# Altium schematic symbol library Components.SchLib: 65 symbols (part 1 of 2)
Pins are listed as number, name and electrical type; pins without a type are passive.

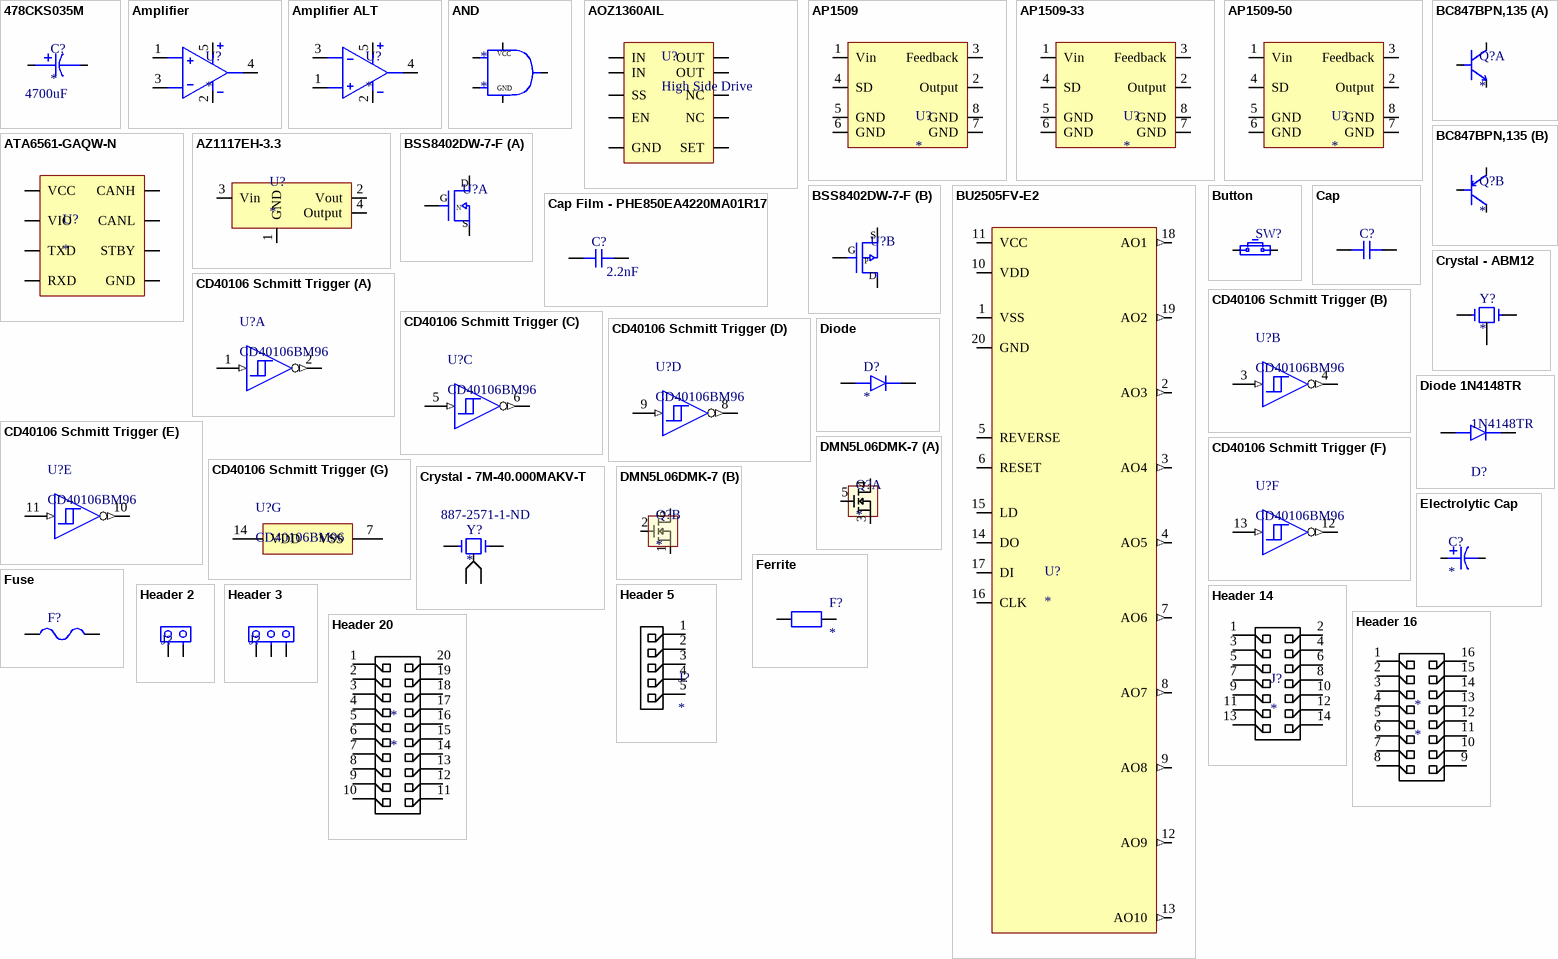
[diagram p0: symbols 478CKS035M to Header 20]

## 478CKS035M
designator C?  value 4700uF
Aluminum Electrolytic Capacitors - Leaded 4700uF 35 Volts 20% LYTICS/IC; Manufacturer: Cornell Dubilier; Manufacturer Part Number: 478CKS035M; Supplier: Newark; Supplier Part Number: 84M5175; RoHS: Yes; Category: Capacitors; Stock: 101; Pricing: 1=1.58, 10=1.45, 25=1.45, 50=1.45, 100=1.34, 500=1.34 (USD); ComponentLink1URL: https://datasheet.ciiva.com/16317/ckr-cks-16317831.pdf?src-supplier=Future+Electronics; ComponentLink1Description: https://datasheet.ciiva.com/16317/ckr-cks-16317831.pdf?src-supplier=Future+Electronics
footprint Radial Capacitor 7.5mm Pitch
pins: 1, 2

## Amplifier
designator U?
footprint SOT 65 - 5
pins: 1 In+, 2 Vcc-, 3 In-, 4 Out, 5 Vcc+

## Amplifier ALT
designator U?
footprint SOT 65 - 5
pins: 1 In+, 2 Vcc-, 3 In-, 4 Out, 5 Vcc+

## AND
designator *
pins: 1 VCC, 2, 3, 4, 5
text: GND

## AOZ1360AIL
designator U?, comment High Side Drive
IC LOAD SW HI-SIDE CC 8SOIC; Manufacturer: Alpha Wire; Manufacturer Part Number: AOZ1361DI-02; Supplier 1: Digi-Key; RoHS: No; Stock 1: 5701; Pricing 1: 1=1.74000, 10=1.56700, 25=1.47800, 100=1.18240, 250=1.03464, 500=1.00508, 1000=0.79815 (USD); Supplier Part Number 1: 785-1861-1-ND
pins: 1 IN, 2 IN, 3 NC, 4 GND, 5 SS, 6 EN, 7 SET, 8 NC, 9 OUT, 10 OUT

## AP1509
designator U?
DIODES INC.         AP1509-SG-13             DC-DC Switching Buck (Step Down) Regulator, Adjustable, 4.5V-22Vin, 1.23V-18Vout, 2Aout, SOIC-8; Number of Outputs: 1; Output Voltage: 18V; Max Input Voltage: 22V; Min Input Voltage: 4.5V; Max Output Current: 2A; Switching Frequency: 173kHz; Efficiency: 76%; Operating Supply Current: 5mA; Min Output Voltage: 1.23V; Synchronous Rectifier: No; Output Configuration: Positive; Supplier 1: Digi-Key; Manufacturer: Diodes; Manufacturer Part Number: AP1509-SG-13; RoHS: Yes; Category: Power Supply Modules; Stock 1: 2148; Pricing 1: 1=1.65000, 10=1.47300, 25=1.39760, 100=1.07330, 250=0.94848, 500=0.89856, 1000=0.69888 (USD); Mount: Surface Mount; Case/Package: SOP; Number of Pins: 8; Weight: 0.030018oz; Contact Plating: Tin,Matte; Min Operating Temperature: -20°C; Max Operating Temperature: 85°C; Operating Supply Voltage: 22V; Output Current: 2A; Packaging: Tape and Reel; Package Quantity: 2500; Min Supply Voltage: 4.5V; Max Output Voltage: 18V; Output Type: Adjustable; Length: 4.95mm; Height: 1.5mm; Width: 3.95mm; REACH SVHC: No SVHC; Lead Free: Lead Free; ComponentLink1URL: https://datasheet.ciiva.com/1165/608784-1165856.pdf?src-supplier=Farnell; ComponentLink1Description: https://datasheet.ciiva.com/1165/608784-1165856.pdf?src-supplier=Farnell; ComponentLink2URL: https://datasheet.ciiva.com/17293/ap1509-17293941.pdf?src-supplier=Avnet+Europe; ComponentLink2Description: https://datasheet.ciiva.com/17293/ap1509-17293941.pdf?src-supplier=Avnet+Europe; ComponentLink3URL: https://datasheet.ciiva.com/1161/608784-1161661.pdf?src-supplier=Element14; ComponentLink3Description: https://datasheet.ciiva.com/1161/608784-1161661.pdf?src-supplier=Element14; Supplier Part Number 1: AP1509-SGDICT-ND
footprint SOIC - 8 (SOIC, 8-Leads, Body 4.90x3.90mm, Pitch 1.27mm, IPC Medium Density)
pins: 1 Vin, 2 Output, 3 Feedback, 4 SD, 5 GND, 6 GND, 7 GND, 8 GND

## AP1509-33
designator U?
Voltage Regulators - Switching SW REG CNV BUCK ASYN 150K 1.4 22V 3.3V; Manufacturer: Diodes; Manufacturer Part Number: AP1509-33SG-13; Number of Outputs: 1; Min Input Voltage: 4.5V; Max Output Current: 2A; Switching Frequency: 173kHz; Efficiency: 78%; Synchronous Rectifier: No; Operating Supply Current: 5mA; Output Type: Fixed; Output Configuration: Positive; Supplier 1: Digi-Key; RoHS: Yes; Category: Voltage Regulators - Switching; Stock 1: 5475; Pricing 1: 1=1.65000, 10=1.47300, 100=1.07330, 500=0.89856, 1000=0.69888 (USD); Mount: Surface Mount; Case/Package: SOP; Number of Pins: 8; Weight: 0.030018oz; Min Operating Temperature: -20°C; Max Operating Temperature: 85°C; Output Voltage: 3.3V; Max Input Voltage: 22V; Operating Supply Voltage: 22V; Package Quantity: 1; Packaging: Tape and Reel; Output Current: 2A; Min Supply Voltage: 4.5V; Nominal Output Voltage: 3.3V; Min Output Voltage: 3.3V; Max Output Voltage: 3.3V; Length: 4.95mm; Height: 1.5mm; Width: 3.95mm; Radiation Hardening: No; REACH SVHC: No SVHC; Lead Free: Lead Free; ComponentLink1URL: https://datasheet.ciiva.com/2024/ap1509-2024112.pdf?src-supplier=Digi-Key; ComponentLink1Description: https://datasheet.ciiva.com/2024/ap1509-2024112.pdf?src-supplier=Digi-Key; ComponentLink2URL: https://datasheet.ciiva.com/26898/ap1509-33sg-13-26898468.pdf?src-supplier=IIIC; ComponentLink2Description: https://datasheet.ciiva.com/26898/ap1509-33sg-13-26898468.pdf?src-supplier=IIIC; ComponentLink3URL: https://datasheet.ciiva.com/17294/ap1509-17294153.pdf?src-supplier=Avnet+Europe; ComponentLink3Description: https://datasheet.ciiva.com/17294/ap1509-17294153.pdf?src-supplier=Avnet+Europe; ComponentLink4URL: https://datasheet.ciiva.com/1161/608784-1161659.pdf?src-supplier=Element14; ComponentLink4Description: https://datasheet.ciiva.com/1161/608784-1161659.pdf?src-supplier=Element14; ComponentLink5URL: https://datasheet.ciiva.com/3220/ap1509-3220415.pdf?src-supplier=Avnet; ComponentLink5Description: https://datasheet.ciiva.com/3220/ap1509-3220415.pdf?src-supplier=Avnet; ComponentLink6URL: https://datasheet.ciiva.com/3222/ap1509-3222047.pdf?src-supplier=Avnet; ComponentLink6Description: https://datasheet.ciiva.com/3222/ap1509-3222047.pdf?src-supplier=Avnet; ComponentLink7URL: https://datasheet.ciiva.com/22696/608784-22696879.pdf?src-supplier=Element14; ComponentLink7Description: https://datasheet.ciiva.com/22696/608784-22696879.pdf?src-supplier=Element14; Supplier Part Number 1: AP1509-33SGDICT-ND
footprint SOIC - 8 (SOIC, 8-Leads, Body 4.90x3.90mm, Pitch 1.27mm, IPC Medium Density)
pins: 1 Vin, 2 Output, 3 Feedback, 4 SD, 5 GND, 6 GND, 7 GND, 8 GND

## AP1509-50
designator U?
DIODES INC.         AP1509-50SG-13             Buck (Step Down) Switching Regulator, Fixed, 4.5V-22V In, 5V And 2A Out, SOIC-8; Number of Outputs: 1; Min Input Voltage: 4.5V; Max Input Voltage: 22V; Switching Frequency: 173kHz; Efficiency: 83%; Synchronous Rectifier: No; Operating Supply Current: 5mA; Output Configuration: Positive; Supplier 1: Digi-Key; Manufacturer: Diodes; Manufacturer Part Number: AP1509-50SG-13; RoHS: Yes; Category: Power Supply Modules; Stock 1: 9190; Pricing 1: 1=1.36000, 10=1.21500, 100=0.88550, 500=0.74132, 1000=0.57658 (USD); Mount: Surface Mount; Case/Package: SOP; Number of Pins: 8; Weight: 0.030018oz; Contact Plating: Tin,Matte; Min Operating Temperature: -20°C; Max Operating Temperature: 85°C; Output Voltage: 5V; Max Output Current: 2A; Operating Supply Voltage: 22V; Packaging: Tape and Reel; Package Quantity: 2500; Output Current: 2A; Min Supply Voltage: 4.5V; Nominal Output Voltage: 5V; Min Output Voltage: 5V; Max Output Voltage: 5V; Output Type: Fixed; Length: 4.95mm; Height: 1.5mm; Width: 3.95mm; REACH SVHC: No SVHC; Lead Free: Lead Free; ComponentLink1URL: https://datasheet.ciiva.com/1161/608784-1161660.pdf?src-supplier=Element14; ComponentLink1Description: https://datasheet.ciiva.com/1161/608784-1161660.pdf?src-supplier=Element14; Supplier Part Number 1: AP1509-50SGDICT-ND
footprint SOIC - 8 (SOIC, 8-Leads, Body 4.90x3.90mm, Pitch 1.27mm, IPC Medium Density)
pins: 1 Vin, 2 Output, 3 Feedback, 4 SD, 5 GND, 6 GND, 7 GND, 8 GND

## ATA6561-GAQW-N
designator U?
MICROCHIP - ATA6561-GAQW-N - CAN Bus, CAN, 4.5 V, 5.5 V, SOIC; Receiver Hysteresis: 120mV; Data Rate: 5Mbps; Supplier 1: Digi-Key; Manufacturer: Microchip; Manufacturer Part Number: ATA6561-GAQW-N; RoHS: No; Stock 1: 2875; Pricing 1: 1=0.53000, 25=0.44000, 100=0.43780 (USD); Mount: Surface Mount; Case/Package: SOIC; Number of Pins: 8; Min Operating Temperature: -40°C; Max Operating Temperature: 150°C; Packaging: Tape and Reel; ComponentLink1URL: http://ww1.microchip.com/downloads/en/DeviceDoc/ATA6560-ATA6561-High-Speed-CAN-Transceiver-DS20005991A.pdf?src-supplier=Newark; ComponentLink1Description: http://ww1.microchip.com/downloads/en/DeviceDoc/ATA6560-ATA6561-High-Speed-CAN-Transceiver-DS20005991A.pdf?src-supplier=Newark; ComponentLink2URL: http://www.farnell.com/datasheets/2643176.pdf?src-supplier=Newark; ComponentLink2Description: http://www.farnell.com/datasheets/2643176.pdf?src-supplier=Newark; ComponentLink3URL: http://ww1.microchip.com/downloads/en/DeviceDoc/ATA6560-ATA6561-High-Speed-CAN-Transceiver-DS20005991A.pdf?src-supplier=Farnell; ComponentLink3Description: http://ww1.microchip.com/downloads/en/DeviceDoc/ATA6560-ATA6561-High-Speed-CAN-Transceiver-DS20005991A.pdf?src-supplier=Farnell; ComponentLink4URL: http://www.microchip.com/mymicrochip/filehandler.aspx?ddocname=en589821&src-supplier=Digi-Key; ComponentLink4Description: http://www.microchip.com/mymicrochip/filehandler.aspx?ddocname=en589821&src-supplier=Digi-Key; ComponentLink5URL: http://www.farnell.com/datasheets/2643176.pdf?src-supplier=Element14; ComponentLink5Description: http://www.farnell.com/datasheets/2643176.pdf?src-supplier=Element14; Supplier Part Number 1: ATA6561-GAQW-NCT-ND
footprint SOIC - 8 (SOIC, 8-Leads, Body 4.90x3.90mm, Pitch 1.27mm, IPC Medium Density)
pins: 1 TXD, 2 GND, 3 VCC, 4 RXD, 5 VIO, 6 CANL, 7 CANH, 8 STBY

## AZ1117EH-3.3
designator U?
IC REG LINEAR 3.3V 1A SOT223; Manufacturer: Diodes; Manufacturer Part Number: AZ1117EH-3.3TRG1; Dropout Voltage: 1.1V; Number of Regulators: 1; Max Input Voltage: 13V; Operating Supply Current: 3.5mA; Power Supply Rejection Ratio (PSRR): 70dB; Polarity: Positive; Accuracy: 1%; Reference Voltage: 1.262V; Output Type: Fixed; Supplier 1: Digi-Key; RoHS: Yes; Category: Voltage Regulators - Linear; Stock 1: 63739; Pricing 1: 1=0.43000, 10=0.32400, 25=0.28320, 100=0.16180, 250=0.15172, 500=0.12138, 1000=0.09306 (USD); Mount: Surface Mount; Case/Package: TO-261-4; Number of Pins: 3; Weight: 0.000282oz; Contact Plating: Tin; Min Operating Temperature: -40°C; Max Operating Temperature: 125°C; Packaging: Tape and Reel; Output Voltage: 3.3V; Output Current: 1A; Number of Outputs: 1; Package Quantity: 4000; Quiescent Current: 3.5mA; Max Output Current: 1A; Lead Free: Lead Free; ComponentLink1URL: http://www.mouser.com/ds/2/115/Diodes_AZ1117E-516247.pdf?src-supplier=Mouser; ComponentLink1Description: http://www.mouser.com/ds/2/115/Diodes_AZ1117E-516247.pdf?src-supplier=Mouser; ComponentLink2URL: https://www.diodes.com/assets/Datasheets/AZ1117E.pdf?src-supplier=Digi-Key; ComponentLink2Description: https://www.diodes.com/assets/Datasheets/AZ1117E.pdf?src-supplier=Digi-Key; ComponentLink3URL: http://diodes.com/datasheets/AZ1117E.pdf?src-supplier=Avnet; ComponentLink3Description: http://diodes.com/datasheets/AZ1117E.pdf?src-supplier=Avnet; Supplier Part Number 1: AZ1117EH-3.3TRG1DICT-ND
footprint SOT223 (SOT223, 4-Leads, Body 6.50x7.00mm (avg), Pitch 2.30mm, IPC Medium Density)
pins: 1 GND, 2 Vout, 3 Vin, 4 Output

## BC847BPN,135
designator Q?
TRANS NPN/PNP 45V 0.1A 6TSSOP; Manufacturer: Nexperia; Manufacturer Part Number: BC847BPN,135; Supplier 1: Digi-Key; RoHS: No; Stock 1: 45801; Pricing 1: 1=0.32000, 10=0.26000, 100=0.10650, 500=0.08886, 1000=0.06174 (USD); ComponentLink1URL: https://assets.nexperia.com/documents/data-sheet/BC847BPN.pdf?src-supplier=Digi-Key; ComponentLink1Description: https://assets.nexperia.com/documents/data-sheet/BC847BPN.pdf?src-supplier=Digi-Key; Supplier Part Number 1: 1727-1877-1-ND
footprint SOT363 - 6
part A pins: 2, 2, 6
part B pins: 3, 4, 5

## BSS8402DW-7-F
designator U?  (value not drawn)
MOSFET N/P-CH 60V/50V SC70-6; Manufacturer: Diodes; Manufacturer Part Number: BSS8402DW-7-F; Gate to Source Voltage (Vgs): 20V; Nominal Vgs: 2.5V; Rds On Max: 7.5R; Input Capacitance: 50pF; Max Power Dissipation: 200mW; Number of Elements: 2; Dual Supply Voltage: 60V; Continuous Drain Current (ID): 115mA; Drain to Source Resistance: 4.4R; Turn-Off Delay Time: 18ns; Drain to Source Voltage (Vdss): -50V; Element Configuration: Dual; Turn-On Delay Time: 10ns; On-State Resistance: 10R; FET Type: N and P-Channel; Supplier 1: Digi-Key; RoHS: Yes; Category: MOSFETs; Stock 1: 189659; Pricing 1: 1=0.49000, 10=0.40100, 100=0.23030, 500=0.21320, 1000=0.14498 (USD); Mount: Surface Mount; Case/Package: SOT-363; Number of Pins: 6; Weight: 0.000212oz; Contact Plating: Tin,Matte; Min Operating Temperature: -55°C; Max Operating Temperature: 150°C; Package Quantity: 3000; Packaging: Tape and Reel; Power Dissipation: 200mW; Threshold Voltage: 2.5V; Termination: SMD/SMT; Number of Channels: 2; Current Rating: 115mA; Length: 2.2mm; Height: 1mm; Width: 1.35mm; REACH SVHC: No SVHC; Lead Free: Lead Free; ComponentLink1URL: https://datasheet.ciiva.com/1252/ds30380-1252496.pdf?src-supplier=Newark; ComponentLink1Description: https://datasheet.ciiva.com/1252/ds30380-1252496.pdf?src-supplier=Newark; ComponentLink2URL: https://datasheet.ciiva.com/4442/ds30380-80943-4442992.pdf?src-supplier=Mouser; ComponentLink2Description: https://datasheet.ciiva.com/4442/ds30380-80943-4442992.pdf?src-supplier=Mouser; ComponentLink3URL: https://datasheet.ciiva.com/34302/1539454-34302372.pdf?src-supplier=Jameco; ComponentLink3Description: https://datasheet.ciiva.com/34302/1539454-34302372.pdf?src-supplier=Jameco; ComponentLink4URL: https://datasheet.ciiva.com/26789/bss8402dw-7-f-26789052.pdf?src-supplier=IIIC; ComponentLink4Description: https://datasheet.ciiva.com/26789/bss8402dw-7-f-26789052.pdf?src-supplier=IIIC; ComponentLink5URL: https://datasheet.ciiva.com/17323/ds30380-17323221.pdf?src-supplier=Avnet+Europe; ComponentLink5Description: https://datasheet.ciiva.com/17323/ds30380-17323221.pdf?src-supplier=Avnet+Europe; ComponentLink6URL: https://datasheet.ciiva.com/928/ds30380-928744.pdf?src-supplier=Digi-Key; ComponentLink6Description: https://datasheet.ciiva.com/928/ds30380-928744.pdf?src-supplier=Digi-Key; ComponentLink7URL: https://datasheet.ciiva.com/928/ds30380-928742.pdf?src-supplier=Digi-Key; ComponentLink7Description: https://datasheet.ciiva.com/928/ds30380-928742.pdf?src-supplier=Digi-Key; ComponentLink8URL: https://datasheet.ciiva.com/928/ds30380-928743.pdf?src-supplier=Digi-Key; ComponentLink8Description: https://datasheet.ciiva.com/928/ds30380-928743.pdf?src-supplier=Digi-Key; ComponentLink9URL: https://datasheet.ciiva.com/16419/ds30380-16419384.pdf?src-supplier=Future+Electronics; ComponentLink9Description: https://datasheet.ciiva.com/16419/ds30380-16419384.pdf?src-supplier=Future+Electronics; ComponentLink10URL: https://datasheet.ciiva.com/1190/ds30380-1190250.pdf?src-supplier=Element14; ComponentLink10Description: https://datasheet.ciiva.com/1190/ds30380-1190250.pdf?src-supplier=Element14; Supplier Part Number 1: BSS8402DW-FDICT-ND
footprint SOT363 - 6
part A pins: 1 Source, 2 Gate, 6 Drain
part B pins: 3 Source, 4 Drain, 5 Gate
part A text: D; G; N; S
part B text: S; G; P; D

## BU2505FV-E2
designator U?
YAGEO         RC0603FR-07100RL            RES, THICK FILM, 100R, 1%, 0.1W, 0603, REEL; Manufacturer: Rohm; Manufacturer Part Number: BU2505FV-E2; Resolution: 10b; Settling Time: 20us; Integral Nonlinearity (INL): 3.5LSB; Output Type: Voltage; Max Supply Voltage: 5.5V; Min Supply Voltage: 4.5V; Number of Channels: 10; Power Consumption: 400mW; Interface: Serial; Supply Type: Single; Temperature Coefficient: 100ppm/°C; Voltage Rating (DC): 50V; Power Rating: 100mW; Supplier 1: Digi-Key; RoHS: Yes; Category: Digital to Analog Converters (DACs); Stock 1: 10757; Pricing 1: 1=5.80000, 10=5.21200, 25=4.92760, 100=4.27050, 250=4.05152, 500=3.63540, 1000=3.06600 (USD); Mount: Surface Mount; Case/Package: LSSOP; Number of Pins: 20; Contact Plating: Copper,Tin; Min Operating Temperature: -30°C; Max Operating Temperature: 85°C; Packaging: Tape and Reel; Number of DAC Channels: 10; Package Quantity: 2500; Number of Converters: 10; Number of Bits: 10; Radiation Hardening: No; Lead Free: Lead Free; ComponentLink1URL: https://datasheet.ciiva.com/4780/bu2505fv-e-210273-4780625.pdf?src-supplier=Mouser; ComponentLink1Description: https://datasheet.ciiva.com/4780/bu2505fv-e-210273-4780625.pdf?src-supplier=Mouser; ComponentLink2URL: https://datasheet.ciiva.com/6659/bu2506fv-e-6659299.pdf?src-supplier=Digi-Key; ComponentLink2Description: https://datasheet.ciiva.com/6659/bu2506fv-e-6659299.pdf?src-supplier=Digi-Key; ComponentLink3URL: https://datasheet.ciiva.com/26920/getdatasheetpartid-436240-26920243.pdf?src-supplier=Verical; ComponentLink3Description: https://datasheet.ciiva.com/26920/getdatasheetpartid-436240-26920243.pdf?src-supplier=Verical; ComponentLink4URL: https://datasheet.ciiva.com/6659/bu2506fv-e-6659302.pdf?src-supplier=Digi-Key; ComponentLink4Description: https://datasheet.ciiva.com/6659/bu2506fv-e-6659302.pdf?src-supplier=Digi-Key; ComponentLink5URL: https://datasheet.ciiva.com/6659/bu2506fv-e-6659303.pdf?src-supplier=Digi-Key; ComponentLink5Description: https://datasheet.ciiva.com/6659/bu2506fv-e-6659303.pdf?src-supplier=Digi-Key; ComponentLink6URL: https://datasheet.ciiva.com/16335/bu2506fv-e-16335895.pdf?src-supplier=Future+Electronics; ComponentLink6Description: https://datasheet.ciiva.com/16335/bu2506fv-e-16335895.pdf?src-supplier=Future+Electronics; ComponentLink7URL: https://datasheet.ciiva.com/8189/bu2506fv-e-8189592.pdf?src-supplier=Avnet; ComponentLink7Description: https://datasheet.ciiva.com/8189/bu2506fv-e-8189592.pdf?src-supplier=Avnet; Supplier Part Number 1: BU2505FV-E2CT-ND; Supplier 2: Digi-Key; Stock 2: 15523210; Pricing 2: 1=0.10000, 10=0.02300, 100=0.00940, 1000=0.00421, 2500=0.00366 (USD); Case Code (Imperial): 0603; Case Code (Metric): 1608; Resistance: 100R; Tolerance: 1%; Composition: Thick Film; Voltage Rating: 50V; Termination: SMD/SMT; Military Standard: Not; Length: 1.6mm; Height: 0.45mm; Width: 0.8mm; Depth: 0.8mm; REACH SVHC: Unknown; ComponentLink8URL: https://datasheet.ciiva.com/7660/38590-7660788.pdf?src-supplier=Element14; ComponentLink8Description: https://datasheet.ciiva.com/7660/38590-7660788.pdf?src-supplier=Element14; ComponentLink9URL: https://datasheet.ciiva.com/11808/0900766b80f96399-11808280.pdf?src-supplier=RSComponents; ComponentLink9Description: https://datasheet.ciiva.com/11808/0900766b80f96399-11808280.pdf?src-supplier=RSComponents; ComponentLink10URL: https://datasheet.ciiva.com/46440/1868787-46440890.pdf?src-supplier=Element14; ComponentLink10Description: https://datasheet.ciiva.com/46440/1868787-46440890.pdf?src-supplier=Element14; ComponentLink11URL: https://datasheet.ciiva.com/7746/1738695-7746237.pdf?src-supplier=Element14; ComponentLink11Description: https://datasheet.ciiva.com/7746/1738695-7746237.pdf?src-supplier=Element14; ComponentLink12URL: https://datasheet.ciiva.com/7746/1738695-7746238.pdf?src-supplier=Element14; ComponentLink12Description: https://datasheet.ciiva.com/7746/1738695-7746238.pdf?src-supplier=Element14; ComponentLink13URL: https://datasheet.ciiva.com/22747/443971-22747518.pdf?src-supplier=Element14; ComponentLink13Description: https://datasheet.ciiva.com/22747/443971-22747518.pdf?src-supplier=Element14; Supplier Part Number 2: 311-100HRCT-ND
footprint SSOP-B20
pins: 1 VSS, 2 AO3 (out), 3 AO4 (out), 4 AO5 (out), 5 REVERSE, 6 RESET, 7 AO6 (out), 8 AO7 (out), 9 AO8 (out), 10 VDD, 11 VCC (power), 12 AO9 (out), 13 AO10 (out), 14 DO, 15 LD, 16 CLK, 17 DI, 18 AO1 (out), 19 AO2 (out), 20 GND (power)

## Button
designator SW?  (value not drawn)
pins: 1, 2

## Cap
designator C?, comment Ceramic Capacitor  (value not drawn)
Value: *
footprint 0201-CAP (SMD-0201)
footprint 0402-CAP
footprint 0603-CAP
footprint 0805-CAP
footprint 1007-CAP (2.5mm x 1.8mm)
footprint 1008-CAP
footprint 1206-CAP
footprint 1210-CAP
footprint 4030-CAP (~13x7mm)
footprint Cap Film -10mm Lead Spacing - PHE850EA4220MA01R17 - duplicate
footprint Cap Film -5mm Lead Spacing
pins: 1, 2

## Cap Film - PHE850EA4220MA01R17
designator C?, comment value 2.2nF  (hidden comment: Ceramic Capacitor)
Film Capacitor, Polypropylene, 1250V, 20% +Tol, 20% -Tol, 0.0022uF, Through Hole Mount, 5116; Manufacturer: KEMET; Manufacturer Part Number: PHE850EA4220MA01R17; Rated AC Voltage (URac): 300V; Rated DC Voltage (URdc): 1.25kV; Supplier: Digikey; Supplier Part Number: 399-5416-ND; RoHS: Yes; Category: Film Capacitors; Stock: 9606; Pricing: 1=0.55, 10=0.37, 50=0.2944, 100=0.243, 500=0.18988, 1000=0.1614, 3000=0.1519, 5000=0.14241 (USD); Mounting Technology: Through Hole; Pins: 2; Dielectric Material: Polypropylene; Package Shape: Rectangular; Case/Package: 5116; Min Operating Temperature: -55°C; Max Operating Temperature: 110°C; Capacitor Type: FILM; Tolerance  (fill in as +-): 20%; Package Style: RadialMeter; Packaging: Bulk; Tolerance (fill in as +-): 20%; Termination: Wire; Length: 13mm; Width: 4mm; Height: 9mm; Terminal Pitch: 10mm; Reach SVHC Compliant: Yes; RoHS Compliant: Yes; ComponentLink1URL: http://capacitoredge.kemet.com:80/capedge2/DataSheet/Datasheet-F850AG222M300A.pdf?pn=F850AG222M300A&src-supplier=IHS+Markit; ComponentLink1Description: http://capacitoredge.kemet.com:80/capedge2/DataSheet/Datasheet-F850AG222M300A.pdf?pn=F850AG222M300A&src-supplier=IHS+Markit; ComponentLink2URL: https://datasheet.ciiva.com/11791/0900766b807a221a-11791184.pdf?src-supplier=Rs; ComponentLink2Description: https://datasheet.ciiva.com/11791/0900766b807a221a-11791184.pdf?src-supplier=Rs; ComponentLink3URL: https://datasheet.ciiva.com/26822/getdatasheetpartid-292550-26822588.pdf?src-supplier=Verical; ComponentLink3Description: https://datasheet.ciiva.com/26822/getdatasheetpartid-292550-26822588.pdf?src-supplier=Verical; ComponentLink4URL: https://datasheet.ciiva.com/241/f3294-phe850-241384.pdf?src-supplier=Digikey; ComponentLink4Description: https://datasheet.ciiva.com/241/f3294-phe850-241384.pdf?src-supplier=Digikey; ComponentLink5URL: https://datasheet.ciiva.com/8031/629954-8031387.pdf?src-supplier=Element14; ComponentLink5Description: https://datasheet.ciiva.com/8031/629954-8031387.pdf?src-supplier=Element14; ComponentLink6URL: https://datasheet.ciiva.com/14111/bbphe850-data-e-14111198.pdf?src-supplier=Distrelec; ComponentLink6Description: https://datasheet.ciiva.com/14111/bbphe850-data-e-14111198.pdf?src-supplier=Distrelec
footprint Cap Radial - PHE850EA4220MA01R17
pins: 1, 2

## CD40106 Schmitt Trigger
designator U?, comment CD40106BM96
CMOS Hex Schmitt Triggers, D0014A, LARGE T&R; Manufacturer: Texas Instruments; Technology Family: CD4000; Voltage(Nom)(V): 5; ICC @ Nom Voltage(Max)(mA): 0.03; tpd @ Nom Voltage(Max)(ns): 280; Rating: Catalog; Schmitt Trigger: Yes; Output Drive (IOL/IOH)(Max)(mA): -1/1; VCC(Max)(V): 18; F @ Nom Voltage(Max)(Mhz): 12; Bits(#): 6; VCC(Min)(V): 3; Code_JEDEC: MS-012; PackageReference: D0014A; Output Type: CMOS; Generic Part Number: CD40106B; Operating Temperature Range(C): -55 to 125; Input Type: CMOS; DatasheetVersion: SCHS097D
footprint CD40106BM96 (SOIC, 14-Leads, Body 8.75x4mm, Pitch 1.27mm, IPC High Density)
part A pins: 1 A (in), 2 G=~{A} (out)
part B pins: 3 B (in), 4 H=~{B} (out)
part C pins: 5 C (in), 6 I=~{C} (out)
part D pins: 8 J=~{D} (out), 9 D (in)
part E pins: 10 K=~{E} (out), 11 E (in)
part F pins: 12 L=~{F} (out), 13 F (in)
part G pins: 7 VSS (power), 14 VDD (power)

## Crystal - 7M-40.000MAKV-T
designator Y?  Supplier Part Number 1: 887-2571-1-ND
40MHz ±30ppm Crystal 8pF 60 Ohms 4-SMD, No Lead; Manufacturer: TXC; Manufacturer Part Number: 7M-40.000MAKV-T; ESR (Equivalent Series Resistance): 60R; Frequency Stability: 60ppm; Supplier 1: Digi-Key; RoHS: Yes; Category: Crystals; Stock 1: 1885; Pricing 1: 1=0.77000, 10=0.68300, 50=0.63860, 100=0.56430, 500=0.53460, 1000=0.44550 (USD); Mount: Surface Mount; Case/Package: SMD/SMT; Min Operating Temperature: -40°C; Max Operating Temperature: 125°C; Packaging: Tape and Reel; Frequency: 40MHz; Load Capacitance: 8pF; Frequency Tolerance: 30ppm; Length: 0.126inch; Height: 0.031inch; Width: 0.098inch; ComponentLink1URL: http://www.mouser.com/ds/2/417/7m-11184.pdf?src-supplier=Mouser; ComponentLink1Description: http://www.mouser.com/ds/2/417/7m-11184.pdf?src-supplier=Mouser; ComponentLink2URL: http://www.txccorp.com/download/products/quartz_crystals/2015TXC_7M_17.pdf?src-supplier=Digi-Key; ComponentLink2Description: http://www.txccorp.com/download/products/quartz_crystals/2015TXC_7M_17.pdf?src-supplier=Digi-Key; ComponentLink3URL: http://www.txccrystal.com/images/pdf/number-crystal-basic.pdf?src-supplier=Digi-Key; ComponentLink3Description: http://www.txccrystal.com/images/pdf/number-crystal-basic.pdf?src-supplier=Digi-Key
footprint Crystal - 7M-40.000MAKV-T (40MHz ±30ppm Crystal 8pF 60 Ohms 4-SMD, No Lead)
pins: 1, 2 GND, 3, 4 GND

## Crystal - ABM12
designator Y?
footprint ABM12 (40MHz ±20ppm Crystal 8pF 100 Ohms 4-SMD, No Lead)
pins: 1, 2, 3

## Diode
designator D?
footprint CFP5 - Diode
pins: 1, 2

## Diode 1N4148TR
designator D?, comment 1N4148TR
DIODE GEN PURP 100V 200MA DO35; Manufacturer: ON Semiconductor; Peak Reverse Current: 5uA; Value: 4pF; Max Junction Temp: +175°C; Max Surge Forward Current: 1A; Footprint Url: https://www.onsemi.com/pub/Collateral/017AG.PDF; Temperature Range Low: -55°C; Max Repetitive Reverse Voltage: 100V; Temperature Range High: +175°C; Reverse Voltage: 100V; ComponentLink2URL: https://www.onsemi.com/pub/Collateral/1N914A-D.pdf; Category: Diode; Package: 017AG; Octopart: https://octopart.com/1n4148tr-on+semiconductor-84323125; Device Class L1: Discrete Semiconductors; Manufacturer Part Number: 1N4148TR; Forward Current: 200mA; Temperature: -55°C to +175°C; Lead Free: Yes; Digikey Description: DIODE GEN PURP 100V 200MA DO35; Mouser Description: 1N4148 Series 100 V 500 mW Small Signal Fast Switching Diode - DO-35; Automotive: No; Device Class L2: Diodes; Device Class L3: Rectifier Diodes; Height: 1.91mm; ComponentLink2Description: Datasheet; RoHS: TRUE; Capacitance: 4pF
footprint Diode 1N4148TR
pins: 1 C, 2 A

## DMN5L06DMK-7
designator Q?
MOSFET 2N-CH 50V 0.305A SOT-26; Manufacturer: Diodes; Manufacturer Part Number: DMN5L06DMK-7; Continuous Drain Current (ID): 305mA; Gate to Source Voltage (Vgs): 20V; Rds On Max: 2R; Input Capacitance: 50pF; Power Dissipation: 400mW; Number of Elements: 2; Element Configuration: Dual; On-State Resistance: 2.5R; FET Type: 2 N-Channel; Supplier 1: Digi-Key; RoHS: Yes; Category: MOSFETs; Stock 1: 11705; Pricing 1: 1=0.41000, 10=0.35100, 100=0.24340, 500=0.19000, 1000=0.15444 (USD); Mount: Surface Mount; Case/Package: SOT-26; Number of Pins: 6; Min Operating Temperature: -65°C; Max Operating Temperature: 150°C; Packaging: Tape and Reel; Package Quantity: 3000; Drain to Source Resistance: 2R; Drain to Source Voltage (Vdss): 50V; Max Power Dissipation: 400mW; Number of Channels: 2; Voltage Rating (DC): 50V; Current Rating: 305mA; Length: 3mm; Height: 1.1mm; Width: 1.6mm; Lead Free: Lead Free; REACH SVHC: No SVHC; ComponentLink1URL: https://datasheet.ciiva.com/928/ds30927-928717.pdf?src-supplier=Avnet; ComponentLink1Description: https://datasheet.ciiva.com/928/ds30927-928717.pdf?src-supplier=Avnet; ComponentLink2URL: https://datasheet.ciiva.com/928/ds30927-928717.pdf?src-supplier=Digi-Key; ComponentLink2Description: https://datasheet.ciiva.com/928/ds30927-928717.pdf?src-supplier=Digi-Key; ComponentLink3URL: https://datasheet.ciiva.com/4443/ds30927-62798-4443168.pdf?src-supplier=Mouser; ComponentLink3Description: https://datasheet.ciiva.com/4443/ds30927-62798-4443168.pdf?src-supplier=Mouser; Supplier Part Number 1: DMN5L06DMKDICT-ND
footprint SOT95 - 6
part A pins: 3 SOURCE1, 4 DRAIN1, 5 GATE1
part B pins: 1 SOURCE2, 2 GATE2, 6 DRAIN2

## Electrolytic Cap
designator C?
footprint 8x10 Elec - CAP
footprint CAP - 10x10-Elect
pins: 1, 2

## Ferrite
designator F?
footprint 0603-RES
footprint 0805-RES
footprint 1206-RES
pins: 1, 2

## Fuse
designator F?  (value not drawn)
footprint 0603-FUSE (0603-RES)
pins: 1, 2

## Header 2
designator J?  (value not drawn)
Supplier 1: Digi-Key; Supplier Part Number 1: 2057-2PH1-02-UA-ND
footprint Header 2 (Pitch 0.05)
pins: 1, 2

## Header 3
designator J?  (value not drawn)
Supplier 1: Digi-Key; Supplier Part Number 1: 2057-2PH1-02-UA-ND
footprint Header 3 (Pitch 0.05)
pins: 1, 2, 3

## Header 5
designator J?
pins: 1, 2, 3, 4, 5

## Header 14
designator J?
footprint Header 14
pins: 1, 2, 3, 4, 5, 6, 7, 8, 9, 10, 11, 12, 13, 14

## Header 16
designator *
footprint Header 16pos
pins: 1, 2, 3, 4, 5, 6, 7, 8, 9, 10, 11, 12, 13, 14, 15, 16

## Header 20
designator *
footprint Header 20pos
pins: 1, 2, 3, 4, 5, 6, 7, 8, 9, 10, 11, 12, 13, 14, 15, 16, 17, 18, 19, 20

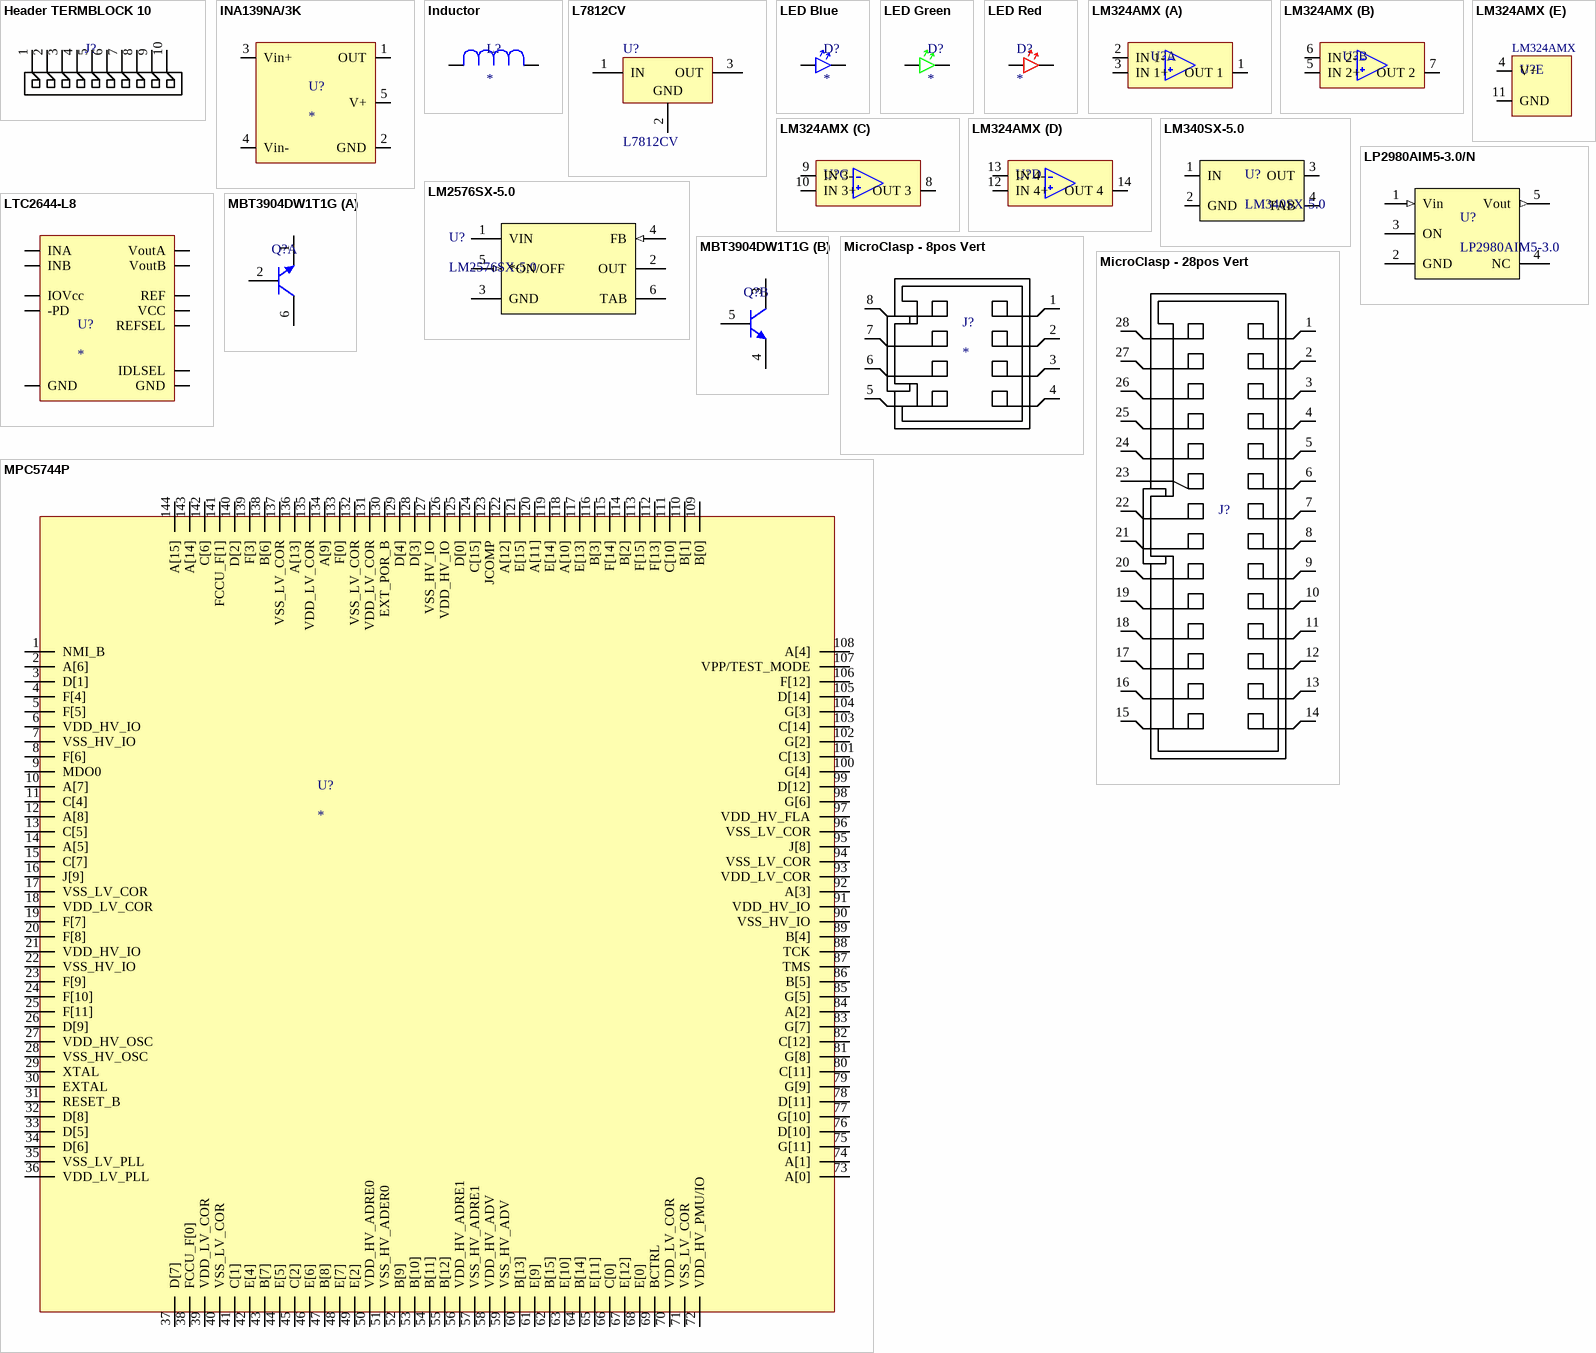
[diagram p1: symbols Header TERMBLOCK 10 to MPC5744P]

## Header TERMBLOCK 10
designator J?  (value not drawn)
Supplier Part Number 1: 102-TBLH10-350-10BK-ND; ComponentLink1Description: Datasheet; ComponentLink1URL: https://www.cuidevices.com/product/resource/digikeypdf/tblh10-350.pdf
footprint Header Termblock 10
pins: 1, 2, 3, 4, 5, 6, 7, 8, 9, 10

## INA139NA/3K
designator U?
IC CURRENT MONITOR 0.5% SOT23-5; Manufacturer: Texas Instruments; Manufacturer Part Number: INA139NA/3K; Min Supply Voltage: 2.7V; Max Supply Voltage: 40V; Common Mode Rejection Ratio: 100dB; Nominal Supply Current: 125uA; Bandwidth: 440kHz; Number of Channels: 1; Input Offset Voltage (Vos): 1mV; Input Bias Current: 10uA; Supplier 1: Digi-Key; RoHS: Yes; Category: Amplifiers - Op Amps, Buffer, Instrumentation; Stock 1: 10890; Pricing 1: 1=1.74000, 10=1.56100, 25=1.47280, 100=1.17830, 250=1.03104, 500=1.00158, 1000=0.79537 (USD); Mount: Surface Mount; Case/Package: SOT-23; Number of Pins: 5; Weight: 0.000617oz; Min Operating Temperature: -40°C; Max Operating Temperature: 125°C; Packaging: Tape and Reel; Package Quantity: 3000; Accuracy: 0.5%; Number of Elements: 1; Radiation Hardening: No; Lead Free: Lead Free; ComponentLink1URL: https://datasheet.ciiva.com/15128/getdatasheetpartid-248784-15128606.pdf?src-supplier=Verical; ComponentLink1Description: https://datasheet.ciiva.com/15128/getdatasheetpartid-248784-15128606.pdf?src-supplier=Verical; ComponentLink2URL: https://datasheet.ciiva.com/26875/ina139na-3k-26875768.pdf?src-supplier=IIIC; ComponentLink2Description: https://datasheet.ciiva.com/26875/ina139na-3k-26875768.pdf?src-supplier=IIIC; ComponentLink3URL: https://datasheet.ciiva.com/1939/ina139-1939992.pdf?src-supplier=Digi-Key; ComponentLink3Description: https://datasheet.ciiva.com/1939/ina139-1939992.pdf?src-supplier=Digi-Key; ComponentLink4URL: https://datasheet.ciiva.com/2976/ina169-2976115.pdf?src-supplier=Avnet; ComponentLink4Description: https://datasheet.ciiva.com/2976/ina169-2976115.pdf?src-supplier=Avnet; ComponentLink5URL: https://datasheet.ciiva.com/1939/ina139-1939993.pdf?src-supplier=Digi-Key; ComponentLink5Description: https://datasheet.ciiva.com/1939/ina139-1939993.pdf?src-supplier=Digi-Key; ComponentLink6URL: https://datasheet.ciiva.com/1939/ina139-1939994.pdf?src-supplier=Digi-Key; ComponentLink6Description: https://datasheet.ciiva.com/1939/ina139-1939994.pdf?src-supplier=Digi-Key; Supplier Part Number 1: 296-26061-1-ND
footprint SOT95 - 5 (SOT23, 5-Leads, Body 2.90x2.80mm, Pitch 0.95mm, IPC Medium Density)
pins: 1 OUT, 2 GND, 3 Vin+, 4 Vin-, 5 V+

## Inductor
designator L?
footprint IHLP-6767GZ - Non Standard
pins: 1, 2

## L7812CV
designator U?
Fixed Positive Standard Regulator, 12VBIPolar, PSFM3; Manufacturer: STMicroelectronics; Max Supply Voltage: 30V; Min Input Voltage: 14.5V; Channels: 1; Output Current1-Max: 1.5A; Output Voltage1-Max: 12.6V; Output Voltage1-Min: 11.4V; Output Voltage1-Nom: 12V; Regulator Type: FIXED POSITIVE SINGLE OUTPUT STANDARD REGULATOR; Surface Mount: No; Qualification Status: Not Qualified; PackageDescription: TO, Thru-Hole, Vertical, Heatsink Mounted; 3 In-Line Leads; Pitch 2.54 mm; ComponentLink3URL: http://www.st.com/internet/com/TECHNICAL_RESOURCES/TECHNICAL_LITERATURE/PACKAGE_INFORMATION/CD00004649.pdf; ComponentLink1URL: http://www.st.com; ComponentLink2Description: Datasheet; ComponentLink3Description: Package Specification; ComponentLink2URL: http://www.st.com/internet/com/TECHNICAL_RESOURCES/TECHNICAL_LITERATURE/DATASHEET/CD00000444.pdf; DatasheetVersion: 16/11/2011; PackageVersion: ver3.0; PackageReference: TO220; ComponentLink1Description: Manufacturer URL; Supplier: Mouser; Supplier Part Number: 511-L7812CV; Manufacturer Part Number: L7812CV; RoHS: Yes; Category: Voltage Regulators - Linear; Stock: 31967; Pricing: 1=0.6, 10=0.465, 50=0.465, 100=0.401, 250=0.381, 500=0.339, 1000=0.289, 2000=0.264, 5000=0.259, 10000=0.258 (USD); Pins: 3; Package Shape: Rectangular; Terminal Finish: Tin; JESD-609 Code: e3; Operating Temperature, TJ-Max: 125°C; Operating Temperature, TJ-Min: 0°C; Package Style: FLANGE MOUNTMeter; Technology: BIPOLAR; Terminal Form: Through Hole; Terminal Position: SINGLE; RoHS Compliant: Yes; Reach SVHC Compliant: No; ComponentLink4URL: https://datasheet.ciiva.com:443/pdfs/VipMasterIC/IC/SGST/SGST-S-A0006334694/SGST-S-A0006334694-1.pdf?src-supplier=IHS+Markit; ComponentLink4Description: https://datasheet.ciiva.com:443/pdfs/VipMasterIC/IC/SGST/SGST-S-A0006334694/SGST-S-A0006334694-1.pdf?src-supplier=IHS+Markit; ComponentLink5URL: https://datasheet.ciiva.com/19456/889305-19456372.pdf?src-supplier=Jameco; ComponentLink5Description: https://datasheet.ciiva.com/19456/889305-19456372.pdf?src-supplier=Jameco; ComponentLink6URL: https://datasheet.ciiva.com/15111/getdatasheetpartid-93787-15111629.pdf?src-supplier=Verical; ComponentLink6Description: https://datasheet.ciiva.com/15111/getdatasheetpartid-93787-15111629.pdf?src-supplier=Verical; ComponentLink7URL: https://datasheet.ciiva.com/29156/156053-da-01-en-spannungsregler-l7812cv-to220-stm-29156878.pdf?src-supplier=Conrad; ComponentLink7Description: https://datasheet.ciiva.com/29156/156053-da-01-en-spannungsregler-l7812cv-to220-stm-29156878.pdf?src-supplier=Conrad; ComponentLink8URL: https://datasheet.ciiva.com/29157/179230-da-01-en-spannungsregler-ic-l7812cv-to-220-stm-29157837.pdf?src-supplier=Conrad; ComponentLink8Description: https://datasheet.ciiva.com/29157/179230-da-01-en-spannungsregler-ic-l7812cv-to-220-stm-29157837.pdf?src-supplier=Conrad; ComponentLink9URL: https://datasheet.ciiva.com/14111/tel78xx-l78xxc-e-14111397.pdf?src-supplier=Distrelec; ComponentLink9Description: https://datasheet.ciiva.com/14111/tel78xx-l78xxc-e-14111397.pdf?src-supplier=Distrelec; ComponentLink10URL: https://datasheet.ciiva.com/6884/1805459-6884955.pdf?src-supplier=Newark; ComponentLink10Description: https://datasheet.ciiva.com/6884/1805459-6884955.pdf?src-supplier=Newark; ComponentLink11URL: https://datasheet.ciiva.com/1511/1805459-1511927.pdf?src-supplier=Element14; ComponentLink11Description: https://datasheet.ciiva.com/1511/1805459-1511927.pdf?src-supplier=Element14; ComponentLink12URL: https://datasheet.ciiva.com/16508/cd00000444-16508249.pdf?src-supplier=Future+Electronics; ComponentLink12Description: https://datasheet.ciiva.com/16508/cd00000444-16508249.pdf?src-supplier=Future+Electronics
footprint TO220 (TO, Thru-Hole, Vertical, Heatsink Mounted; 3 In-Line Leads; Pitch 2.54 mm)
pins: 1 IN (power), 2 GND (power), 3 OUT (power)

## LED Blue
designator D?
LED BLUE CLEAR SMD; Manufacturer: Vishay Lite-On; Manufacturer Part Number: LTST-C194TBKT; Lens Color: Colorless; Viewing Angle: 130°; Lens Style: Rectangular,Diffused,Colorless; Forward Current: 5mA; Forward Voltage: 3.8V; Luminous Intensity: 180mcd; Dominant Wavelength: 468nm; Test Current: 20mA; Number of LEDs: 1; Power Dissipation: 76mW; Reverse Voltage: 5V; Supplier 1: Digi-Key; RoHS: Yes; Category: LEDs; Stock 1: 9660; Pricing 1: 1=0.45000, 10=0.32000, 100=0.14240, 500=0.09968, 1000=0.08188, 2500=0.07120 (USD); Mount: Surface Mount; Case/Package: 0603; Number of Pins: 2; Color: Blue; Case Code (Metric): 1608; Case Code (Imperial): 0603; Min Operating Temperature: -20°C; Max Operating Temperature: 80°C; Packaging: Tape and Reel; Package Quantity: 1; Illumination Color: Blue; Lens Transparency: Clear; Number of Elements: 1; Length: 1.6mm; Height: 0.35mm; Width: 0.8mm; Depth: 0.8mm; Radiation Hardening: No; Lead Free: Lead Free; ComponentLink1URL: https://datasheet.ciiva.com/2115/ltst-c194tbkt-2115056.pdf?src-supplier=Digi-Key; ComponentLink1Description: https://datasheet.ciiva.com/2115/ltst-c194tbkt-2115056.pdf?src-supplier=Digi-Key; ComponentLink2URL: https://datasheet.ciiva.com/4689/lite-on-ltst-c194tbkt-187209-4689177.pdf?src-supplier=Mouser; ComponentLink2Description: https://datasheet.ciiva.com/4689/lite-on-ltst-c194tbkt-187209-4689177.pdf?src-supplier=Mouser; ComponentLink3URL: https://datasheet.ciiva.com/2115/s-110-ltst-c194tbkt-2115057.pdf?src-supplier=Digi-Key; ComponentLink3Description: https://datasheet.ciiva.com/2115/s-110-ltst-c194tbkt-2115057.pdf?src-supplier=Digi-Key; Supplier Part Number 1: 160-1837-1-ND
footprint 0603-LED (0603-RES)
pins: 1, 2

## LED Green
designator D?
LED Uni-Color Green 574nm 2-Pin Chip LED T/R; Manufacturer: Vishay Lite-On; Manufacturer Part Number: LTST-C191KGKT; Lens Color: Colorless; Luminous Intensity: 35mcd; Viewing Angle: 130°; Forward Voltage: 2V; Dominant Wavelength: 571nm; Test Current: 20mA; Lens Transparency: Clear; Lens Style: Diffused,Colorless,Rectangular,Clear; Forward Current: 30mA; Number of Elements: 1; Power Dissipation: 75mW; Reverse Voltage: 5V; Supplier 1: Digi-Key; RoHS: Yes; Category: LEDs; Stock 1: 840932; Pricing 1: 1=0.28000, 10=0.20100, 100=0.09540, 500=0.06364, 1000=0.04984, 2500=0.04878 (USD); Mount: Surface Mount; Case/Package: 0603; Number of Pins: 2; Color: Green; Case Code (Metric): 1608; Case Code (Imperial): 0603; Min Operating Temperature: -55°C; Max Operating Temperature: 85°C; Packaging: Tape and Reel; Package Quantity: 1; Wavelength: 574nm; Illumination Color: Green; Number of LEDs: 1; Power Rating: 75mW; Length: 1.6mm; Height: 0.55mm; Width: 0.8mm; Depth: 0.8mm; Radiation Hardening: No; Lead Free: Lead Free; ComponentLink1URL: https://datasheet.ciiva.com/12400/100-ltst-c191kgkt-53586-12400818.pdf?src-supplier=Mouser; ComponentLink1Description: https://datasheet.ciiva.com/12400/100-ltst-c191kgkt-53586-12400818.pdf?src-supplier=Mouser; ComponentLink2URL: https://datasheet.ciiva.com/11773/0900766b80dc02b1-11773629.pdf?src-supplier=RSComponents; ComponentLink2Description: https://datasheet.ciiva.com/11773/0900766b80dc02b1-11773629.pdf?src-supplier=RSComponents; ComponentLink3URL: https://datasheet.ciiva.com/16215/ltst-c191kgkt-16215151.pdf?src-supplier=Future+Electronics; ComponentLink3Description: https://datasheet.ciiva.com/16215/ltst-c191kgkt-16215151.pdf?src-supplier=Future+Electronics; ComponentLink4URL: https://datasheet.ciiva.com/2109/s-110-ltst-c191kgkt-2109973.pdf?src-supplier=Digi-Key; ComponentLink4Description: https://datasheet.ciiva.com/2109/s-110-ltst-c191kgkt-2109973.pdf?src-supplier=Digi-Key; ComponentLink5URL: https://datasheet.ciiva.com/2109/s-110-ltst-c191kgkt-2109974.pdf?src-supplier=Digi-Key; ComponentLink5Description: https://datasheet.ciiva.com/2109/s-110-ltst-c191kgkt-2109974.pdf?src-supplier=Digi-Key; ComponentLink6URL: https://datasheet.ciiva.com/2109/s-110-ltst-c191kgkt-2109975.pdf?src-supplier=Digi-Key; ComponentLink6Description: https://datasheet.ciiva.com/2109/s-110-ltst-c191kgkt-2109975.pdf?src-supplier=Digi-Key; ComponentLink7URL: https://datasheet.ciiva.com/15223/getdatasheetpartid-103913-15223276.pdf?src-supplier=Verical; ComponentLink7Description: https://datasheet.ciiva.com/15223/getdatasheetpartid-103913-15223276.pdf?src-supplier=Verical; Supplier Part Number 1: 160-1446-1-ND
footprint 0603-LED (0603-RES)
pins: 1, 2

## LED Red
designator D?
LED RED DIFFUSED 1608 SMD; Manufacturer: Rohm; Manufacturer Part Number: SML-D12U1WT86; Lens Color: White; Luminous Intensity: 63mcd; Test Current: 20mA; Dominant Wavelength: 620nm; Forward Voltage: 2.2V; Supplier 1: Digi-Key; RoHS: Yes; Category: LEDs; Stock 1: 66149; Pricing 1: 1=0.21000, 10=0.15500, 100=0.07330, 500=0.04884, 1000=0.03826 (USD); Mount: Surface Mount; Case/Package: 0603; Color: Red; Case Code (Metric): 1608; Case Code (Imperial): 0603; Packaging: Tape and Reel; Lens Transparency: Diffused; Length: 1.6mm; Height: 0.65mm; Width: 0.8mm; Lead Free: Lead Free; ComponentLink1URL: https://www.rohm.com/datasheet/SML-D12U1W?src-supplier=Digi-Key; ComponentLink1Description: https://www.rohm.com/datasheet/SML-D12U1W?src-supplier=Digi-Key; Supplier Part Number 1: SML-D12U1WT86CT-ND
footprint 0603-LED (0603-RES)
pins: 1, 2

## LM324AMX
designator U?  (value not drawn)
IC OPAMP GP 1MHZ 14SOIC; Manufacturer: Texas Instruments; Manufacturer Part Number: LM324AMX/NOPB; Min Dual Supply Voltage: 1.5V; Max Supply Voltage: 32V; Voltage Gain: 100dB; Slew Rate: 0.5V/µs; Min Supply Voltage: 3V; Max Dual Supply Voltage: 16V; Output Current: 20mA; Number of Channels: 4; Operating Supply Voltage: 5V; Max Power Dissipation: 800mW; Input Bias Current: 100nA; Input Offset Voltage (Vos): 3mV; Max Supply Current: 1.2mA; Power Supply Rejection Ratio (PSRR): 65dB; Supplier 1: Digi-Key; RoHS: Yes; Category: Amplifiers - Op Amps, Buffer, Instrumentation; Stock 1: 67940; Pricing 1: 1=1.02000, 10=0.90900, 25=0.86240, 100=0.66220, 250=0.58520, 500=0.55440, 1000=0.43120 (USD); Mount: Surface Mount; Case/Package: SOIC; Number of Pins: 14; Contact Plating: Tin,Matte; Min Operating Temperature: 0°C; Max Operating Temperature: 70°C; Gain Bandwidth Product: 1MHz; Dual Supply Voltage: 3V; Number of Amplifiers: 4; Packaging: Tape and Reel; Number of Elements: 4; Power Dissipation: 800mW; Unity Gain Bandwidth Product: 1MHz; Common Mode Rejection Ratio: 65dB; Bandwidth: 1MHz; Length: 8.64mm; Height: 1.45mm; Width: 3.91mm; REACH SVHC: No SVHC; Lead Free: Lead Free; ComponentLink1URL: https://datasheet.ciiva.com/46382/1888860-46382407.pdf?src-supplier=Element14; ComponentLink1Description: https://datasheet.ciiva.com/46382/1888860-46382407.pdf?src-supplier=Element14; ComponentLink2URL: https://datasheet.ciiva.com/49046/1902683-49046501.pdf?src-supplier=Element14; ComponentLink2Description: https://datasheet.ciiva.com/49046/1902683-49046501.pdf?src-supplier=Element14; Supplier Part Number 1: LM324AMX/NOPBCT-ND
footprint SOIC - 14
part A pins: 1 OUT 1, 2 IN 1-, 3 IN 1+
part B pins: 5 IN 2+, 6 IN 2-, 7 OUT 2
part C pins: 8 OUT 3, 9 IN 3-, 10 IN 3+
part D pins: 12 IN 4+, 13 IN 4-, 14 OUT 4
part E pins: 4 V+, 11 GND

## LM340SX-5.0
designator U?
TEXAS INSTRUMENTS   LM340SX-5.0/NOPB.   LINEAR VOLTAGE REGULATOR 5V TO-263-3, FULL REEL; Built_By: EMA_UL_Team; Min Input Voltage: 7.5V; Max Input Voltage: 35V; Max Output Current: 1A; Number of Outputs: 1; Polarity: Positive; Quiescent Current: 8mA; Accuracy: 2%; Output Type: Fixed; Dropout Voltage: 2V; Power Supply Rejection Ratio (PSRR): 80dB; Manufacturer_Part_Number: LM340SX-5.0/NOPB; Vendor: Texas Instruments; Copyright: Copyright (C) 2018 Accelerated Designs. All rights reserved; RefDes: RefDes; Type: DEV; Supplier 1: Digi-Key; Manufacturer: Texas Instruments; Manufacturer Part Number: LM340SX-5.0/NOPB; RoHS: Yes; Category: Voltage Regulators - Linear; Stock 1: 22464; Pricing 1: 1=1.53000, 10=1.37800, 25=1.30040, 100=1.04030, 250=0.91028 (USD); Mount: Surface Mount; Case/Package: TO-263; Number of Pins: 3; Min Operating Temperature: 0°C; Max Operating Temperature: 125°C; Output Voltage: 5V; Package Quantity: 500; Packaging: Tape and Reel; Output Current: 1A; Output Voltage Accuracy: 2%; Nominal Output Voltage: 5V; Max Output Voltage: 5V; Length: 10.16mm; Height: 4.57mm; Width: 8.64mm; Lead Free: Contains Lead; REACH SVHC: No SVHC; ComponentLink1URL: https://datasheet.ciiva.com/46381/1882927-46381862.pdf?src-supplier=Element14; ComponentLink1Description: https://datasheet.ciiva.com/46381/1882927-46381862.pdf?src-supplier=Element14; ComponentLink2URL: https://datasheet.ciiva.com/46381/1888853-46381897.pdf?src-supplier=Element14; ComponentLink2Description: https://datasheet.ciiva.com/46381/1888853-46381897.pdf?src-supplier=Element14; ComponentLink3URL: https://datasheet.ciiva.com/49028/1888853-49028029.pdf?src-supplier=Element14; ComponentLink3Description: https://datasheet.ciiva.com/49028/1888853-49028029.pdf?src-supplier=Element14; Supplier Part Number 1: LM340SX-5.0/NOPBCT-ND
footprint TS3B
pins: 1 IN (power), 2 GND (power), 3 OUT (power), 4 TAB (power)

## LM2576SX-5.0
designator U?
Buck Switching Regulator IC Positive Fixed 5V 1 Output 3A; Manufacturer: TI National Semiconductor; Manufacturer Part Number: LM2576SX-5.0/NOPB; Number of Outputs: 1; Min Input Voltage: 4V; Max Input Voltage: 40V; Switching Frequency: 58kHz; Efficiency: 77%; Synchronous Rectifier: No; Quiescent Current: 5mA; Supplier 1: Digi-Key; RoHS: Yes; Category: Power Supply Modules; Stock 1: 25568; Pricing 1: 1=2.86000, 10=2.56700, 25=2.42640, 100=1.99510, 250=1.79016 (USD); Mount: Surface Mount; Case/Package: TO-263-5; Number of Pins: 5; Contact Plating: Tin; Min Operating Temperature: -40°C; Max Operating Temperature: 125°C; Output Voltage: 5V; Max Output Current: 3A; Operating Supply Voltage: 40V; Packaging: Tape and Reel; Output Current: 3A; Package Quantity: 500; Output Type: Fixed; Nominal Output Voltage: 5V; Radiation Hardening: No; REACH SVHC: No SVHC; Lead Free: Contains Lead; ComponentLink1URL: https://datasheet.ciiva.com/41457/001013741-da-01-en-ic-reg-bu-lm2576sx-5-0-nopb-to-263-5-tid-41457614.pdf?src-supplier=Conrad; ComponentLink1Description: https://datasheet.ciiva.com/41457/001013741-da-01-en-ic-reg-bu-lm2576sx-5-0-nopb-to-263-5-tid-41457614.pdf?src-supplier=Conrad; Supplier Part Number 1: LM2576SX-5.0/NOPBCT-ND
footprint LM2576SX
pins: 1 VIN (power), 2 OUT (power), 3 GND (power), 4 FB (in), 5 *ON/OFF (in), 6 TAB (power)

## LP2980AIM5-3.0/N
designator U?, comment LP2980AIM5-3.0
LDO Regulator Pos 3V 0.05A 5-Pin SOT-23 T/R; Manufacturer_Part_Number: LP2980AIM5-3.0/NOPB; Manufacturer: TI National Semiconductor; Vendor: Texas Instruments; Built_By: EMA_UL_Team; Number of Outputs: 1; Min Input Voltage: 2.1V; Max Input Voltage: 16V; Max Output Current: 50mA; Polarity: Positive; Accuracy: 0.75%; Output Type: Fixed; Dropout Voltage: 120mV; Quiescent Current: 65uA; Current Rating: 50A; Copyright: Copyright (C) 2018 Accelerated Designs. All rights reserved; RefDes: RefDes; Type: DEV; Value: Value; Supplier 1: Digi-Key; Manufacturer Part Number: LP2980AIM5-3.0/NOPB; RoHS: Yes; Category: Voltage Regulators - Linear; Stock 1: 52111; Pricing 1: 1=0.75000, 10=0.65900, 25=0.61960, 100=0.46960, 250=0.39964, 500=0.37966 (USD); Mount: Surface Mount; Case/Package: SOT-23; Number of Pins: 5; Contact Plating: Tin,Matte; Min Operating Temperature: -40°C; Max Operating Temperature: 125°C; Output Voltage: 3V; Packaging: Tape and Reel; Output Current: 50mA; Package Quantity: 1000; Nominal Output Voltage: 3V; Max Supply Voltage: 16V; Output Voltage Accuracy: 0.75%; Length: 2.92mm; Height: 1.02mm; Width: 1.6mm; Radiation Hardening: No; REACH SVHC: No SVHC; Lead Free: Lead Free; ComponentLink1URL: https://datasheet.ciiva.com/6598/lp2980-n-6598165.pdf?src-supplier=Digi-Key; ComponentLink1Description: https://datasheet.ciiva.com/6598/lp2980-n-6598165.pdf?src-supplier=Digi-Key; ComponentLink2URL: https://datasheet.ciiva.com/3223/lp2980-n-3223850.pdf?src-supplier=Avnet; ComponentLink2Description: https://datasheet.ciiva.com/3223/lp2980-n-3223850.pdf?src-supplier=Avnet; Supplier Part Number 1: LP2980AIM5-3.0/NOPBCT-ND
footprint SOT95 - 5 (SOT23, 5-Leads, Body 2.90x2.80mm, Pitch 0.95mm, IPC Medium Density)
pins: 1 Vin (in), 2 GND, 3 ON, 4 NC, 5 Vout (out)

## LTC2644-L8
designator U?
LINEAR TECHNOLOGY   LTC2644CMS-L8#PBF   Digital to Analogue Converter, 8 bit, 100 kSPS, PWM, 2.7V to 5.5V, MSOP, 12 Pins; Manufacturer: Analog Devices / Linear Technology; Number of Bits: 8; Number of D/A Converters: 2; Settling Time: 7us; Differential Output: No; Sampling Rate: 100KS/s; Resolution: 8b; Supplier 1: Digi-Key; Manufacturer Part Number: LTC2644CMS-L8#PBF; RoHS: Yes; Category: Digital to Analog Converters (DACs); Stock 1: 411; Pricing 1: 1=5.94000, 25=3.94520, 100=3.26200 (USD); Case/Package: MSOP; Number of Pins: 12; Min Operating Temperature: 0°C; Max Operating Temperature: 70°C; Packaging: Rail/Tube; Interface: PWM; REACH SVHC: No SVHC; ComponentLink1URL: https://datasheet.ciiva.com/46425/1849351-46425093.pdf?src-supplier=Element14; ComponentLink1Description: https://datasheet.ciiva.com/46425/1849351-46425093.pdf?src-supplier=Element14; Supplier Part Number 1: LTC2644CMS-L8#PBF-ND
footprint SOP65 - 12
pins: 1 VCC, 2 VoutA, 3 VoutB, 4 IDLSEL, 5 IOVcc, 6 GND, 7 -PD, 8 INB, 9 INA, 10 REF, 11 REFSEL, 12 GND